# EAGLE library part 87C748 (library micro-philips)
8051 -comabtible 8bit Microcontroller
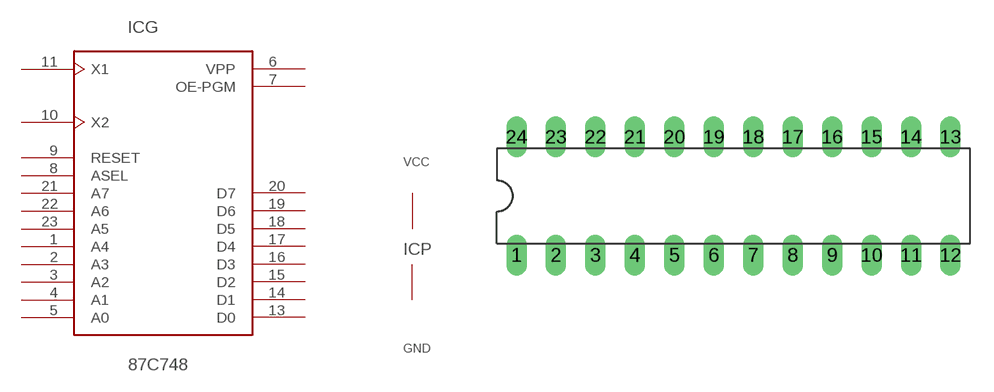
[diagram p20: symbol with the pads of DIP24SKI; footprint DIP24SKI]

Designator prefix IC; gates G=8XC748 P=PWR2

## 87C748  [DIP24SKI]
1  G:A4  out
2  G:A3  out
3  G:A2  out
4  G:A1  out
5  G:A0  out
6  G:VPP  pwr
7  G:OE-PGM  in
8  G:ASEL  out
9  G:RESET  in
10  G:X2  in
11  G:X1  in
12  P:GND  pwr
13  G:D0  hiz
14  G:D1  hiz
15  G:D2  hiz
16  G:D3  hiz
17  G:D4  hiz
18  G:D5  hiz
19  G:D6  hiz
20  G:D7  hiz
21  G:A7  out
22  G:A6  out
23  G:A5  out
24  P:VCC  pwr

## Footprint DIP24SKI (pad centres in mm)
Dual In Line
drill 0.813 pad 1.27 long: 1 -11.43,-3.81; 2 -8.89,-3.81; 3 -6.35,-3.81; 4 -3.81,-3.81; 5 -1.27,-3.81; 6 1.27,-3.81; 7 3.81,-3.81; 8 6.35,-3.81; 9 8.89,-3.81; 10 11.43,-3.81; 11 13.97,-3.81; 12 16.51,-3.81; 13 16.51,3.81; 14 13.97,3.81; 15 11.43,3.81; 16 8.89,3.81; 17 6.35,3.81; 18 3.81,3.81; 19 1.27,3.81; 20 -1.27,3.81; 21 -3.81,3.81; 22 -6.35,3.81; 23 -8.89,3.81; 24 -11.43,3.81